# Altium schematic symbol library ECL_Logic.SchLib: 10 symbols
Pins are listed as number, name and electrical type; pins without a type are passive.

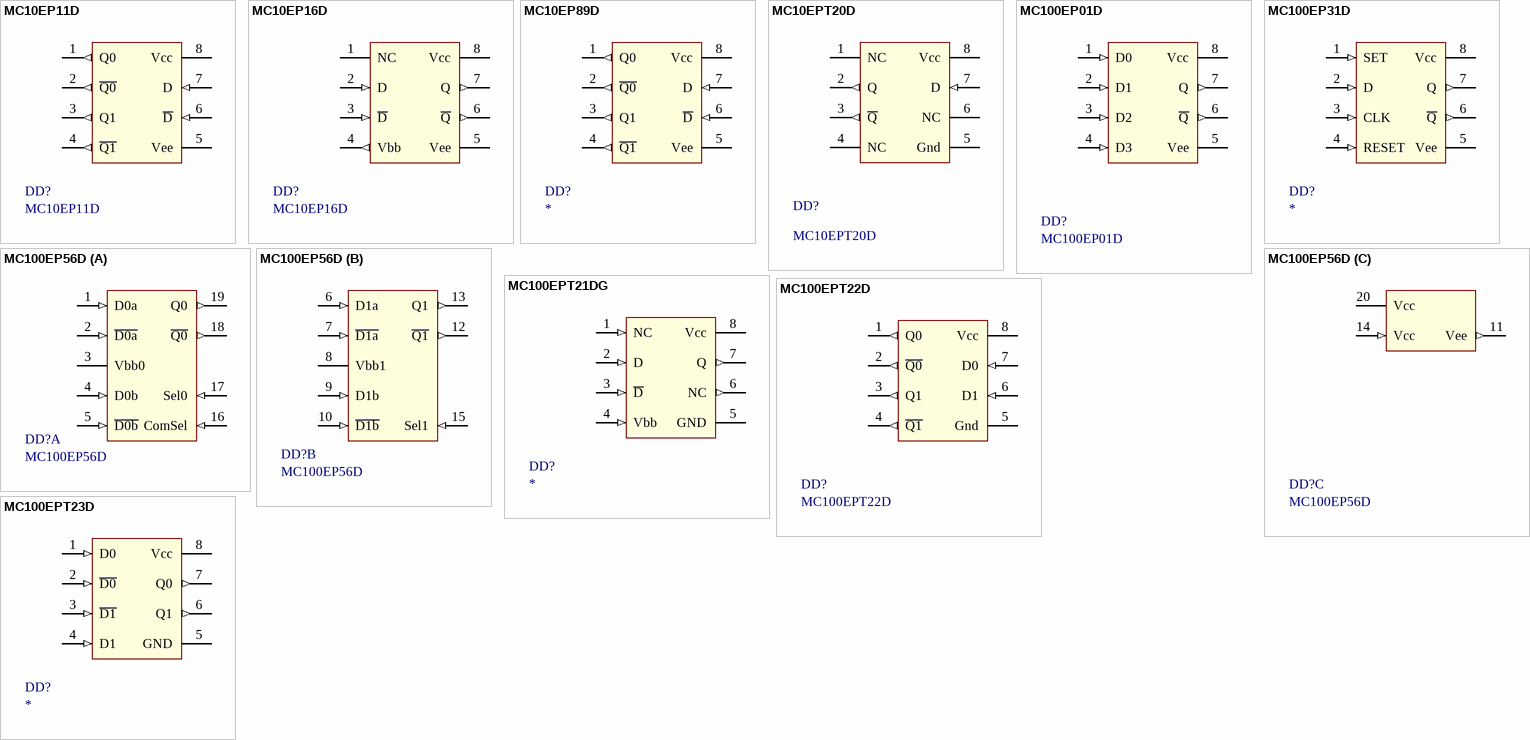
[diagram p0: symbols MC10EP11D to MC100EPT23D]

## MC10EP11D
designator DD?
footprint SOIC-8
pins: 1 Q0 (out), 2 ~{Q0} (out), 3 Q1 (out), 4 ~{Q1} (out), 5 Vee (power), 6 ~{D} (in), 7 D (in), 8 Vcc (power)

## MC10EP16D
designator DD?
footprint SOIC-8
pins: 1 NC, 2 D (in), 3 ~{D} (in), 4 Vbb (out), 5 Vee (power), 6 ~{Q} (out), 7 Q (out), 8 Vcc (power)

## MC10EP89D
designator DD?
footprint SOIC-8
pins: 1 Q0 (out), 2 ~{Q0} (out), 3 Q1 (out), 4 ~{Q1} (out), 5 Vee (power), 6 ~{D} (in), 7 D (in), 8 Vcc (power)

## MC10EPT20D
designator DD?
footprint SOIC-8
pins: 1 NC, 2 Q (out), 3 ~{Q} (out), 4 NC, 5 Gnd (power), 6 NC, 7 D (in), 8 Vcc (power)

## MC100EP01D
designator DD?
footprint SOIC-8
pins: 1 D0 (in), 2 D1 (in), 3 D2 (in), 4 D3 (in), 5 Vee (power), 6 ~{Q} (out), 7 Q (out), 8 Vcc (power)

## MC100EP31D
designator DD?
footprint SOIC-8
pins: 1 SET (in), 2 D (in), 3 CLK (in), 4 RESET (in), 5 Vee (power), 6 ~{Q} (out), 7 Q (out), 8 Vcc (power)

## MC100EP56D
designator DD?
footprint SOIC-20WB (SOIC, 20-Leads, Body 12,80x7,50mm, Pitch 1,27mm, IPC Medium Density)
footprint TSSOP-20 (TSOP, 20-Leads, Body 6,50x4,40mm, Pitch 0,65mm, IPC Medium Density)
part A pins: 1 D0a (in), 2 ~{D0a} (in), 3 Vbb0, 4 D0b (in), 5 ~{D0b} (in), 16 ComSel (in), 17 Sel0 (in), 18 ~{Q0} (out), 19 Q0 (out)
part B pins: 6 D1a (in), 7 ~{D1a} (in), 8 Vbb1, 9 D1b (in), 10 ~{D1b} (in), 12 ~{Q1} (out), 13 Q1 (out), 15 Sel1 (in)
part C pins: 11 Vee (out), 14 Vcc (in), 20 Vcc (power)

## MC100EPT21DG
designator DD?
footprint SOIC-8
pins: 1 NC (in), 2 D (in), 3 ~{D} (in), 4 Vbb (in), 5 GND (power), 6 NC (out), 7 Q (out), 8 Vcc (power)

## MC100EPT22D
designator DD?
footprint SOIC-8
pins: 1 Q0 (out), 2 ~{Q0} (out), 3 Q1 (out), 4 ~{Q1} (out), 5 Gnd (power), 6 D1 (in), 7 D0 (in), 8 Vcc (power)

## MC100EPT23D
designator DD?
footprint SOIC-8
pins: 1 D0 (in), 2 ~{D0} (in), 3 ~{D1} (in), 4 D1 (in), 5 GND (power), 6 Q1 (out), 7 Q0 (out), 8 Vcc (power)